# EAGLE library part DS1621 (library sensors)
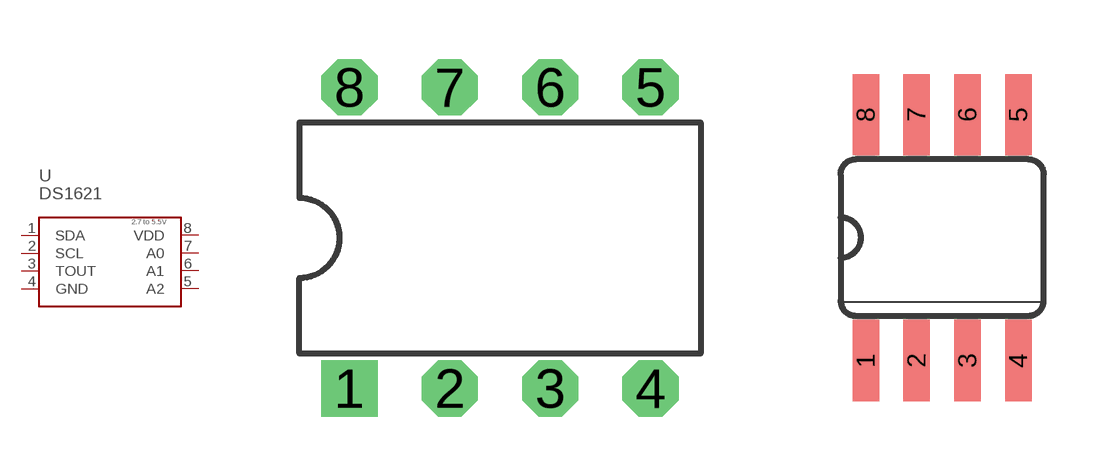
[diagram p2: symbol with the pads of DIP08; footprints DIP08, SOIC08]

Designator prefix -

## DS1621DIP (PACKAGE: DIP08)  [DIP08]
1  SDA
2  SCL
3  TOUT  out
4  GND  in
5  A2  in
6  A1  in
7  A0  in
8  VDD  in

## DS1621SO (PACKAGE: SOIC08)  [SOIC08]
Pads as for DIP08

## Footprint DIP08 (pad centres in mm)
drill 0.7 pad 1.422 square: 1 -3.81,-3.81
drill 0.7 pad 1.422 octagon: 2 -1.27,-3.81; 3 1.27,-3.81; 4 3.81,-3.81; 5 3.81,3.81; 6 1.27,3.81; 7 -1.27,3.81; 8 -3.81,3.81

## Footprint SOIC08 (pad centres in mm)
Small Outline Package SOIC 150 mil
smd 0.66 x 2.032: 1 -1.905,-3.073; 2 -0.635,-3.073; 3 0.635,-3.073; 4 1.905,-3.073; 5 1.905,3.073; 6 0.635,3.073; 7 -0.635,3.073; 8 -1.905,3.073